# Altium footprint library Conectores_PCBLIB.PcbLib: 60 footprints (part 1 of 4)
Each footprint in its own frame and in the unit in brackets; x right, y up, seen from the top. Pads: shape width x height; smd on the part's side, far side on the other; paste and mask are expansions set on the pad; w line width, h text height; cw(c..) or ccw(c..) is an arc to the next point about the centre after c.
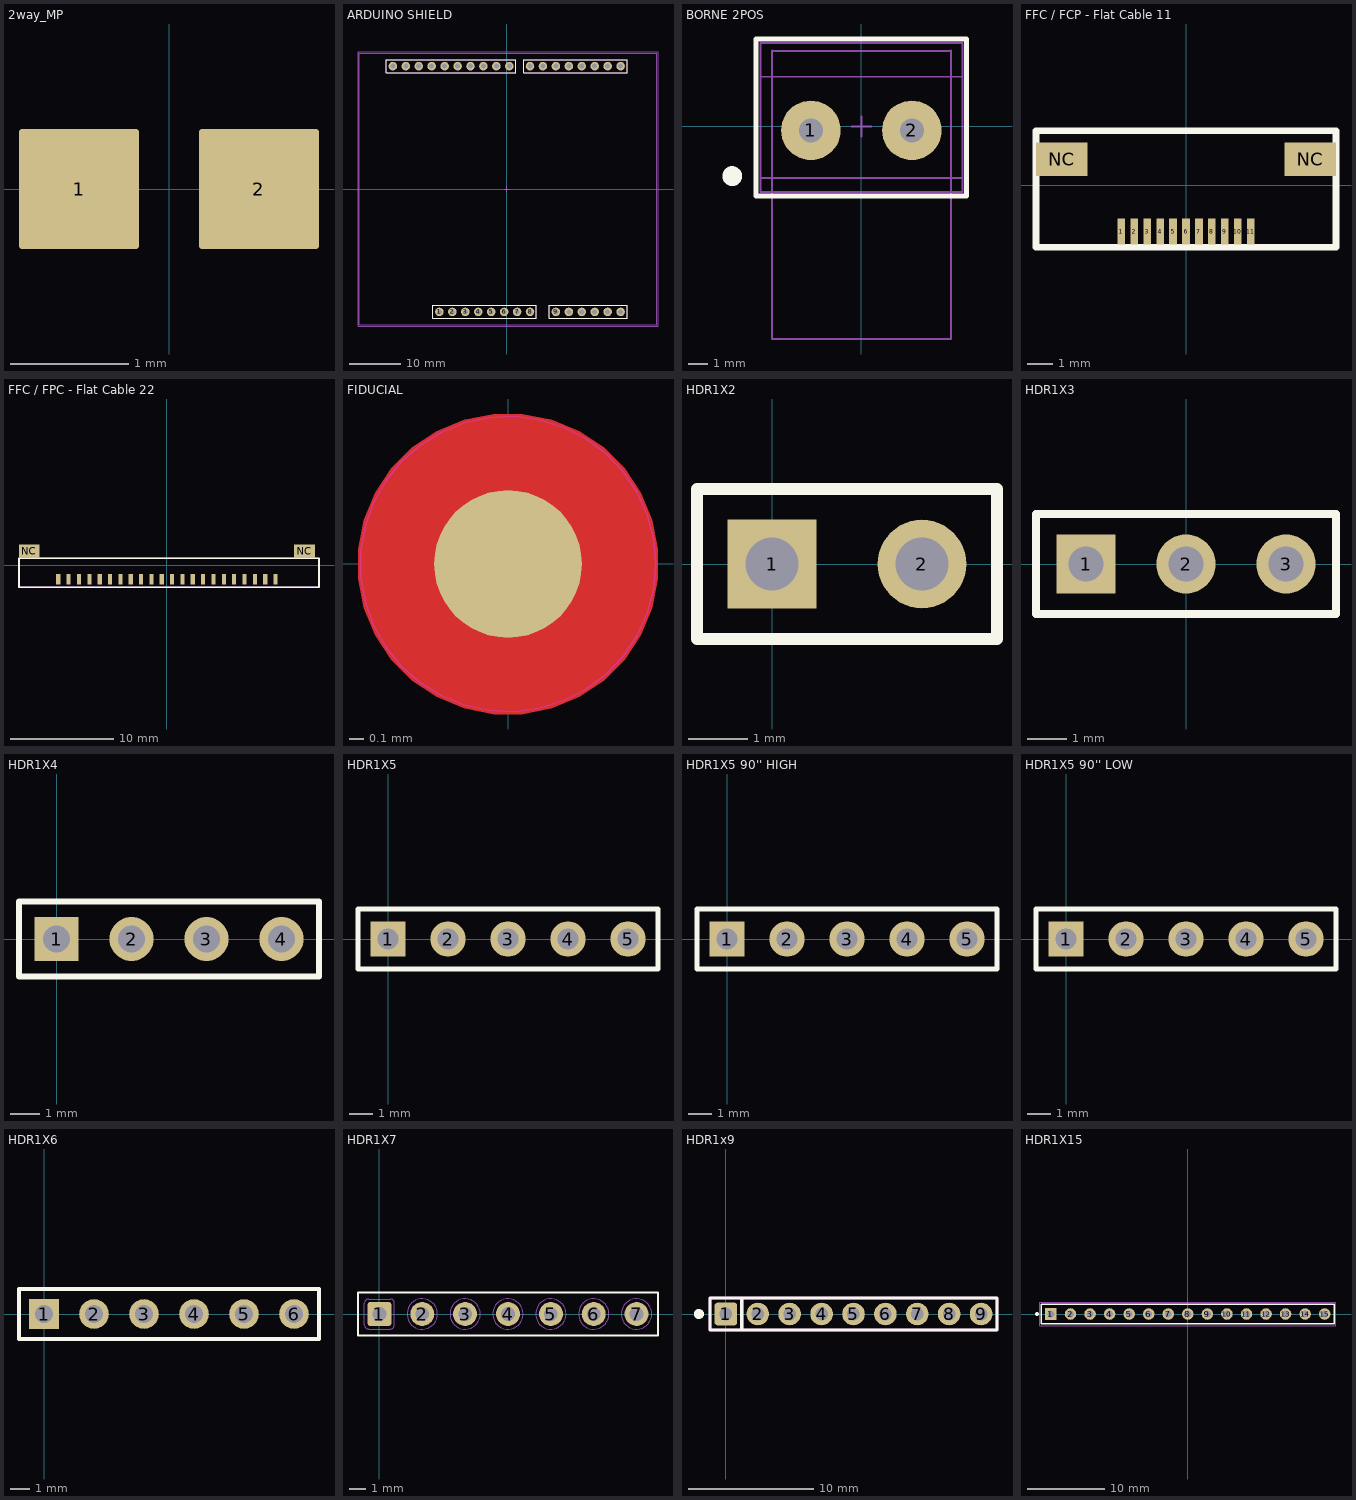
[diagram p0: the footprints below, top view; thin cyan lines are the x and y axes]

## 2way_MP [mil] "2 way medium power net tie junction"
height 1
pads (2):
  rrect5% 40x40 smd paste-100: 1(-30,0) 2(30,0)

## ARDUINO SHIELD [mil]
pads (32):
  round 66 hole 39.37: 1(-520,-950) 2(-420,-950) 3(-320,-950) 4(-220,-950) 5(-120,-950) 6(-20,-950) 7(80,-950) 8(180,-950) 9(380,-950) 10(480,-950) 11(580,-950) 12(680,-950) 13(780,-950) 14(880,-950) 15(880,950) 16(780,950) 17(680,950) 18(580,950) 19(480,950) 20(380,950) 21(280,950) 22(180,950) 23(20,950) 24(-80,950) 25(-180,950) 26(-280,950) 27(-380,950) 28(-480,950) 29(-580,950) 30(-680,950) 31(-780,950) 32(-880,950)
Top Overlay:
  lines w7.87: -930,900 -930,1000 70,1000 70,900 -930,900 ; -570,-1000 230,-1000 230,-900 -570,-900 -570,-1000 ; 130,900 930,900 930,1000 130,1000 130,900 ; 330,-1000 330,-900 930,-900 930,-1000 330,-1000
Mechanical 13:
  lines w3.94: -1140,-1050 -1140,-850 -1140,850 -1140,1050 -940,1050 960,1050 1160,1050 1160,850 1160,-850 1160,-1050 960,-1050 -940,-1050 -1140,-1050 ; -930,900 -930,1000 70,1000 70,900 -930,900 ; -570,-1000 230,-1000 230,-900 -570,-900 -570,-1000 ; 130,900 130,1000 930,1000 930,900 130,900 ; 330,-1000 930,-1000 930,-900 330,-900 330,-1000
Mechanical 15:
  lines w3.94: -20,0 20,0 ; 0,-20 0,20 ; -1149.53,-1059.84 1169.37,-1059.84 1169.37,1060.24 -1149.53,1060.24 -1149.53,-1059.84
Mechanical 29:
  lines w3.94: -1140,-1050 1160,-1050 1160,1050 -1140,1050 -1140,-1050
  text ".Designator" at -70,-70 h157.48
3D body "User Library-SIL_Socket06_.STEP": height 334.65, standoff -411.79, extent 330,-1000 930,-900
3D body "User Library-SIL_Socket08_.STEP": height 334.65, standoff -411.79, extent -570,-1000 230,-900
3D body "User Library-SIL_Socket08_.STEP": height 334.65, standoff -411.79, extent 130,900 930,1000
3D body "User Library-SIL_Socket10_.STEP": height 334.65, standoff -411.79, extent -930,900 70,1000
3D body "Arduino_UNO.STEP": height 37.01, standoff -563.39, extent -1870.28,-1049.8 1079.72,1050.2

## BORNE 2POS [mm]
height 11
pads (2):
  round 3 hole 1.2: 1(-2.54,-0.2) 2(2.54,-0.2)
Top Overlay:
  circle w0.5: c-6.5,-2.5 r0.25
  lines w0.254: -5.3,-3.5 5.3,-3.5 5.3,4.4 -5.3,4.4 -5.3,-3.5
Mechanical 13:
  lines w0.1: -5.08,-2.6 5.08,-2.6 ; -5.08,2.5 5.08,2.5 ; -5.08,-3.3 5.08,-3.3 5.08,4.2 -5.08,4.2 -5.08,-3.3
Mechanical 15:
  lines w0.1: -0.5,0 0.5,0 ; 0,-0.5 0,0.5 ; -5.3,-3.5 5.3,-3.5 5.3,4.4 -5.3,4.4 -5.3,-3.5
Mechanical 29:
  lines w0.1: -4.5,3.8 4.5,3.8 ; -4.5,3.81 -4.5,-10.7 4.5,-10.7 4.5,3.81
  text ".Designator" at 1.016,-9.652 h2
3D body "Borne 2pos.STEP": height 10, standoff -3.05, extent -5.08,-3.3 5.08,4.2

## FFC / FCP - Flat Cable 11 [mm]
pads (13):
  rect 0.3x1 smd mask+0.08: 1(-2.5,-1.8) 2(-2,-1.8) 3(-1.5,-1.8) 4(-1,-1.8) 5(-0.5,-1.8) 6(0,-1.8) 7(0.5,-1.8) 8(1,-1.8) 9(1.5,-1.8) 10(2,-1.8) 11(2.5,-1.8)
  rect 2x1.3 smd: NC(-4.8,1) NC(4.8,1)
Top Overlay:
  lines w0.254: -5.8,-2.4 5.8,-2.4 5.8,2.1 -5.8,2.1 -5.8,-2.4
3D body "5052781133.stp": height 1.88, standoff -0.02, extent -5.5,-1.9 5.5,3.4

## FFC / FPC - Flat Cable 22 [mm]
pads (24):
  rect 0.4x1 smd: 0(-10.5,-1.35) 1(-9.5,-1.35) 2(-8.5,-1.35) 3(-7.5,-1.35) 4(-6.5,-1.35) 5(-5.5,-1.35) 6(-4.5,-1.35) 7(-3.5,-1.35) 8(-2.5,-1.35) 9(-1.5,-1.35) 10(-0.5,-1.35) 11(0.5,-1.35) 12(1.5,-1.35) 13(2.5,-1.35) 14(3.5,-1.35) 15(4.5,-1.35) 16(5.5,-1.35) 17(6.5,-1.35) 18(7.5,-1.35) 19(8.5,-1.35) 20(9.5,-1.35) 21(10.5,-1.35)
  rect 2x1.3 smd: NC(-13.3,1.35) NC(13.3,1.35)
Top Overlay:
  lines w0.152: -14.3,-2.134 14.7,-2.134 14.7,0.65 -14.3,0.65 -14.3,-2.134
Mechanical 15:
  lines w0.152: -14.3,-2.134 14.7,-2.134 14.7,0.65 -14.3,0.65 -14.3,-2.134
3D body "2005280220.stp": height -0.42, standoff -2.38, extent -14,-1.55 14,3.75

## FIDUCIAL [mm] "FIDUCIAL"
pads (1):
  round 1 smd mask+0.5: ""(0,0)
Top Layer:
  pour cut-out: 0,1.016 -0.1,1.016 -0.296,0.977 -0.481,0.9 -0.648,0.789 -0.789,0.648 -0.9,0.481 -0.977,0.296 -1.016,0.1 -1.016,0 -1.016,-0.1 -0.977,-0.296 -0.9,-0.481 -0.789,-0.648 -0.648,-0.789 -0.481,-0.9 -0.296,-0.977 -0.1,-1.016 0,-1.016 0.1,-1.016 0.296,-0.977 0.481,-0.9 0.648,-0.789 0.789,-0.648 0.9,-0.481 0.977,-0.296 1.016,-0.1 1.016,0 1.016,0.1 0.977,0.296 0.9,0.481 0.789,0.648 0.648,0.789 0.481,0.9 0.296,0.977 0.1,1.016
Top Layer keep-out:
  circle w0.01: c0,0 r1
Mechanical 29:
  text ".Designator" at 0,0 h1

## HDR1X2 [mm]
pads (2):
  rect 1.5x1.5 hole 0.9: 1(0,0)
  round 1.5 hole 0.9: 2(2.54,0)
Top Overlay:
  lines w0.2: -1.27,-1.27 -1.27,1.27 3.81,1.27 3.81,-1.27 -1.27,-1.27

## HDR1X3 [mm]
pads (3):
  rect 1.5x1.5 hole 0.9: 1(-2.54,0)
  round 1.5 hole 0.9: 2(0,0) 3(2.54,0)
Top Overlay:
  lines w0.2: -3.81,-1.27 3.81,-1.27 3.81,1.27 -3.81,1.27 -3.81,-1.27

## HDR1X4 [mm]
pads (4):
  rect 1.5x1.5 hole 0.9: 1(0,0)
  round 1.5 hole 0.9: 2(2.54,0) 3(5.08,0) 4(7.62,0)
Top Overlay:
  lines w0.2: -1.27,-1.27 8.89,-1.27 8.89,1.27 -1.27,1.27 -1.27,-1.27

## HDR1X5 [mm]
pads (5):
  rect 1.5x1.5 hole 0.9: 1(0,0)
  round 1.5 hole 0.9: 2(2.54,0) 3(5.08,0) 4(7.62,0) 5(10.16,0)
Top Overlay:
  lines w0.2: -1.27,-1.27 -1.27,1.27 11.43,1.27 11.43,-1.27 -1.27,-1.27

## HDR1X5 90'' HIGH [mm]
pads (5):
  rect 1.5x1.5 hole 0.9: 1(0,0)
  round 1.5 hole 0.9: 2(2.54,0) 3(5.08,0) 4(7.62,0) 5(10.16,0)
Top Overlay:
  lines w0.2: -1.27,-1.27 -1.27,1.27 11.43,1.27 11.43,-1.27 -1.27,-1.27
3D body "hdr-1x01-m-90hi-tht-2.54mm.step": height 4.1, standoff -3.5, extent 8.89,-1.27 11.43,7.35
3D body "hdr-1x01-m-90hi-tht-2.54mm.step": height 4.1, standoff -3.5, extent 6.35,-1.27 8.89,7.35
3D body "hdr-1x01-m-90hi-tht-2.54mm.step": height 4.1, standoff -3.5, extent 3.81,-1.27 6.35,7.35
3D body "hdr-1x01-m-90hi-tht-2.54mm.step": height 4.1, standoff -3.5, extent 1.27,-1.27 3.81,7.35
3D body "hdr-1x01-m-90hi-tht-2.54mm.step": height 4.1, standoff -3.5, extent -1.27,-1.27 1.27,7.35

## HDR1X5 90'' LOW [mm]
pads (5):
  rect 1.5x1.5 hole 0.9: 1(0,0)
  round 1.5 hole 0.9: 2(2.54,0) 3(5.08,0) 4(7.62,0) 5(10.16,0)
Top Overlay:
  lines w0.2: -1.27,-1.27 -1.27,1.27 11.43,1.27 11.43,-1.27 -1.27,-1.27
3D body "hdr-1x01-m-90lo-tht-2.54mm.step": height 4.15, standoff -5.95, extent 1.295,-1.2 3.835,5.19
3D body "hdr-1x01-m-90lo-tht-2.54mm.step": height 4.15, standoff -5.95, extent 3.83,-1.2 6.37,5.19
3D body "hdr-1x01-m-90lo-tht-2.54mm.step": height 4.15, standoff -5.95, extent 6.365,-1.2 8.905,5.19
3D body "hdr-1x01-m-90lo-tht-2.54mm.step": height 4.15, standoff -5.95, extent 8.9,-1.2 11.44,5.19
3D body "hdr-1x01-m-90lo-tht-2.54mm.step": height 4.15, standoff -5.95, extent -1.24,-1.2 1.3,5.19

## HDR1X6 [mm]
pads (6):
  rect 1.5x1.5 hole 0.9: 1(0,0)
  round 1.5 hole 0.9: 2(2.54,0) 3(5.08,0) 4(7.62,0) 5(10.16,0) 6(12.7,0)
Top Overlay:
  lines w0.2: -1.27,-1.27 13.97,-1.27 13.97,1.27 -1.27,1.27 -1.27,-1.27

## HDR1X7 [mil] "Connector; Header; 7 Position"
pads (7):
  rrect25% 56x56 / inner rrect25% 56x56 / far side rrect25% 72x72 hole 32: 1(0,0)
  round 56 / inner round 56 / far side round 72 hole 32: 2(100,0) 3(200,0) 4(300,0) 5(400,0) 6(500,0) 7(600,0)
Top Overlay:
  lines w5: -50,-50 -50,50 650,50 650,-50 -50,-50
Mechanical 13:
  circle w1.97: c600,0 r35.43
  circle w1.97: c600,0 r16
  circle w1.97: c500,0 r35.43
  circle w1.97: c500,0 r16
  circle w1.97: c400,0 r35.43
  circle w1.97: c400,0 r16
  circle w1.97: c300,0 r35.43
  circle w1.97: c300,0 r16
  circle w1.97: c200,0 r35.43
  circle w1.97: c200,0 r16
  circle w1.97: c100,0 r16
  circle w1.97: c100,0 r35.43
  circle w1.97: c0,0 r16
  lines w1.97: -35,-25 ccw(c-25,-25) -25,-35 25,-35 ccw(c25,-25) 35,-25 35,25 ccw(c25,25) 25,35 -25,35 ccw(c-25,25) -35,25 -35,-25

## HDR1x9 [mm] "PinHeader 1x9 TH Pitch 2.54mm"
height 9.5
pads (9):
  rrect25% 1.8x1.8 hole 1: 1(0,0)
  round 1.8 hole 1: 2(2.54,0) 3(5.08,0) 4(7.62,0) 5(10.16,0) 6(12.7,0) 7(15.24,0) 8(17.78,0) 9(20.32,0)
Top Overlay:
  circle w0.5: c-2.15,0 r0.15
  lines w0.254: 1.27,-1.27 1.27,1.27 -1.27,1.27 ; -1.27,1.27 -1.27,-1.27 21.59,-1.27 21.59,1.27 -1.27,1.27
Mechanical 3:
  lines w0.254: 1.27,-1.27 1.27,1.27 -1.27,1.27 ; -1.27,1.27 -1.27,-1.27 21.59,-1.27 21.59,1.27 -1.27,1.27
3D body "Pin Header 1x9 TH Pitch 2.54mm.stp": height 9.5, standoff -3.2, extent -1.27,-1.27 21.59,1.27

## HDR1X15 [mm] "Connector; Header; 15 Position"
pads (15):
  rect 1.5x1.5 hole 0.9: 1(-17.78,0)
  round 1.5 hole 0.9: 2(-15.24,0) 3(-12.7,0) 4(-10.16,0) 5(-7.62,0) 6(-5.08,0) 7(-2.54,0) 8(0,0) 9(2.54,0) 10(5.08,0) 11(7.62,0) 12(10.16,0) 13(12.7,0) 14(15.24,0) 15(17.78,0)
Top Overlay:
  circle w0.25: c-19.6,0 r0.125
  lines w0.2: -19.05,-1.27 -19.05,1.27 -17.145,1.27 19.05,1.27 19.05,-1.27 -19.05,-1.27
Mechanical 15:
  lines w0.05: -19.25,-1.5 19.25,-1.5 19.25,1.5 -19.25,1.5 -19.25,-1.5
  lines w0.1: -0.5,0 0.5,0 ; 0,-0.5 0,0.5
Mechanical 29:
  text ".Designator" at 0,0 h1